# EAGLE library part TEN_50-2411 (library AREA)
TRACOPOWER 50W Isolated DC-DC Converter, Vin 18 36 V dc, Vout 5V dc, I/O isolation 1500V dc Source: Datasheet <http://www.tracopower.com/products/ten50.pdf>
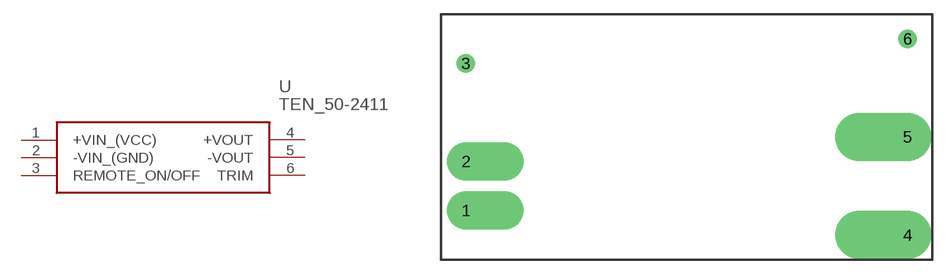
[diagram p5: symbol with the pads of TEN_50-2411; footprint TEN_50-2411]

Designator prefix U

## TEN_50-2411 (DESCRIPTION: TRACOPOWER 50W Isolated DC-DC Converter, Vin 18 36 V dc, Vout 5V dc, I/O isolation 1500V dc; HEIGHT: mm; MANUFACTURER_NAME: Traco Power; MANUFACTURER_PART_NUMBER: TEN 50-2411; RS_PART_NUMBER: 7702299; RS_PRICE/STOCK: http://uk.rs-online.com/web/p/products/7702299)  [TEN_50-2411]
1  +VIN_(VCC)  in
2  -VIN_(GND)  in
3  REMOTE_ON/OFF  in
4  +VOUT  in
5  -VOUT  in
6  TRIM  in

## Footprint TEN_50-2411 (pad centres in mm)
TEN_50-2411
drill 1.25 pad 4 offset: 1 -48.26,-20.32; 2 -48.26,-15.24
drill 1.25 pad 1.9: 3 -48.26,-5.08; 6 -2.54,-2.54
drill 1.25 pad 5 offset: 4 -2.54,-22.86; 5 -2.54,-12.7